# Altium footprint library PCBA.PcbLib: 1 footprints
Each footprint in its own frame and in the unit in brackets; x right, y up, seen from the top. Pads: shape width x height; smd on the part's side, far side on the other; paste and mask are expansions set on the pad; w line width, h text height; cw(c..) or ccw(c..) is an arc to the next point about the centre after c.
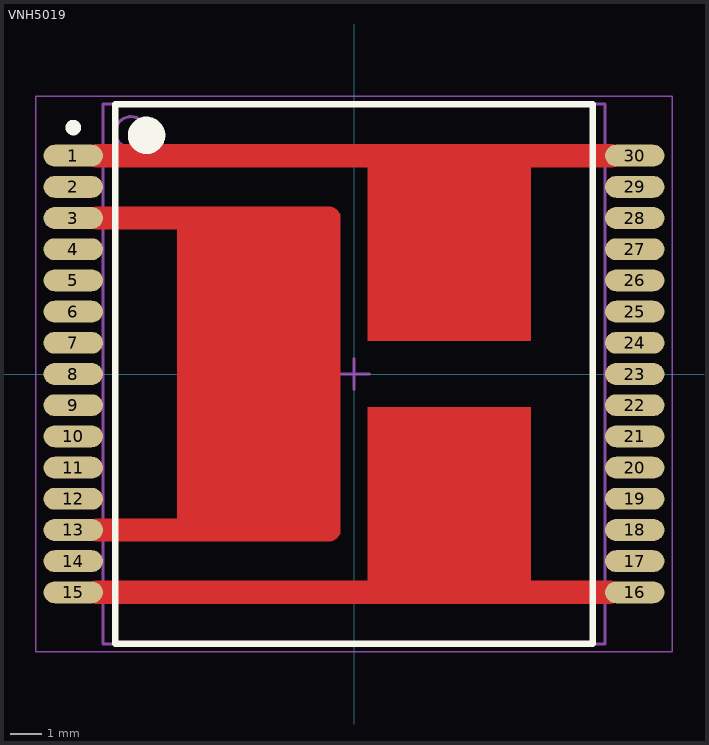
[diagram p0: the footprint, top view; thin cyan lines are the x and y axes]

## VNH5019 [mm] "MultiPowerSO-30"
height 2.35
pads (30):
  oval 1.9x0.7 smd: 1(-9,7) 2(-9,6) 3(-9,5) 4(-9,4) 5(-9,3) 6(-9,2) 7(-9,1) 8(-9,0) 9(-9,-1) 10(-9,-2) 11(-9,-3) 12(-9,-4) 13(-9,-5) 14(-9,-6) 15(-9,-7) 16(9,-7) 17(9,-6) 18(9,-5) 19(9,-4) 20(9,-3) 21(9,-2) 22(9,-1) 23(9,0) 24(9,1) 25(9,2) 26(9,3) 27(9,4) 28(9,5) 29(9,6) 30(9,7)
Top Layer:
  rectangle: 0.425,-7.28 5.675,-1.05
  rectangle: -5.675,-5.15 -0.425,5.15
  rectangle: 0.425,1.05 5.675,7.28
  lines w0.75: -8.25,-7 8.2,-7 ; -8.25,-5 -0.8,-5 ; -8.25,5 -0.8,5 ; -8.25,7 8.25,7
Top Overlay:
  circle w0.6: c-6.65,7.65 r0.3
  circle w0.25: c-9,7.9 r0.125
  lines w0.2: -7.65,-8.65 7.65,-8.65 7.65,8.65 -7.65,8.65 -7.65,-8.65
Mechanical 13:
  circle w0.1: c-7.15,7.75 r0.5
  lines w0.1: -8.05,-8.65 8.05,-8.65 8.05,8.65 -8.05,8.65 -8.05,-8.65
Mechanical 15:
  lines w0.05: -10.2,-8.9 10.2,-8.9 10.2,8.9 -10.2,8.9 -10.2,-8.9
  lines w0.1: -0.5,0 0.5,0 ; 0,-0.5 0,0.5
3D body: height 2.35, standoff 0.1, extent -8.05,-8.65 8.05,8.65